# Altium schematic symbol library Flow_Pump.SCHLIB: 55 symbols
Pins are listed as number, name and electrical type; pins without a type are passive.

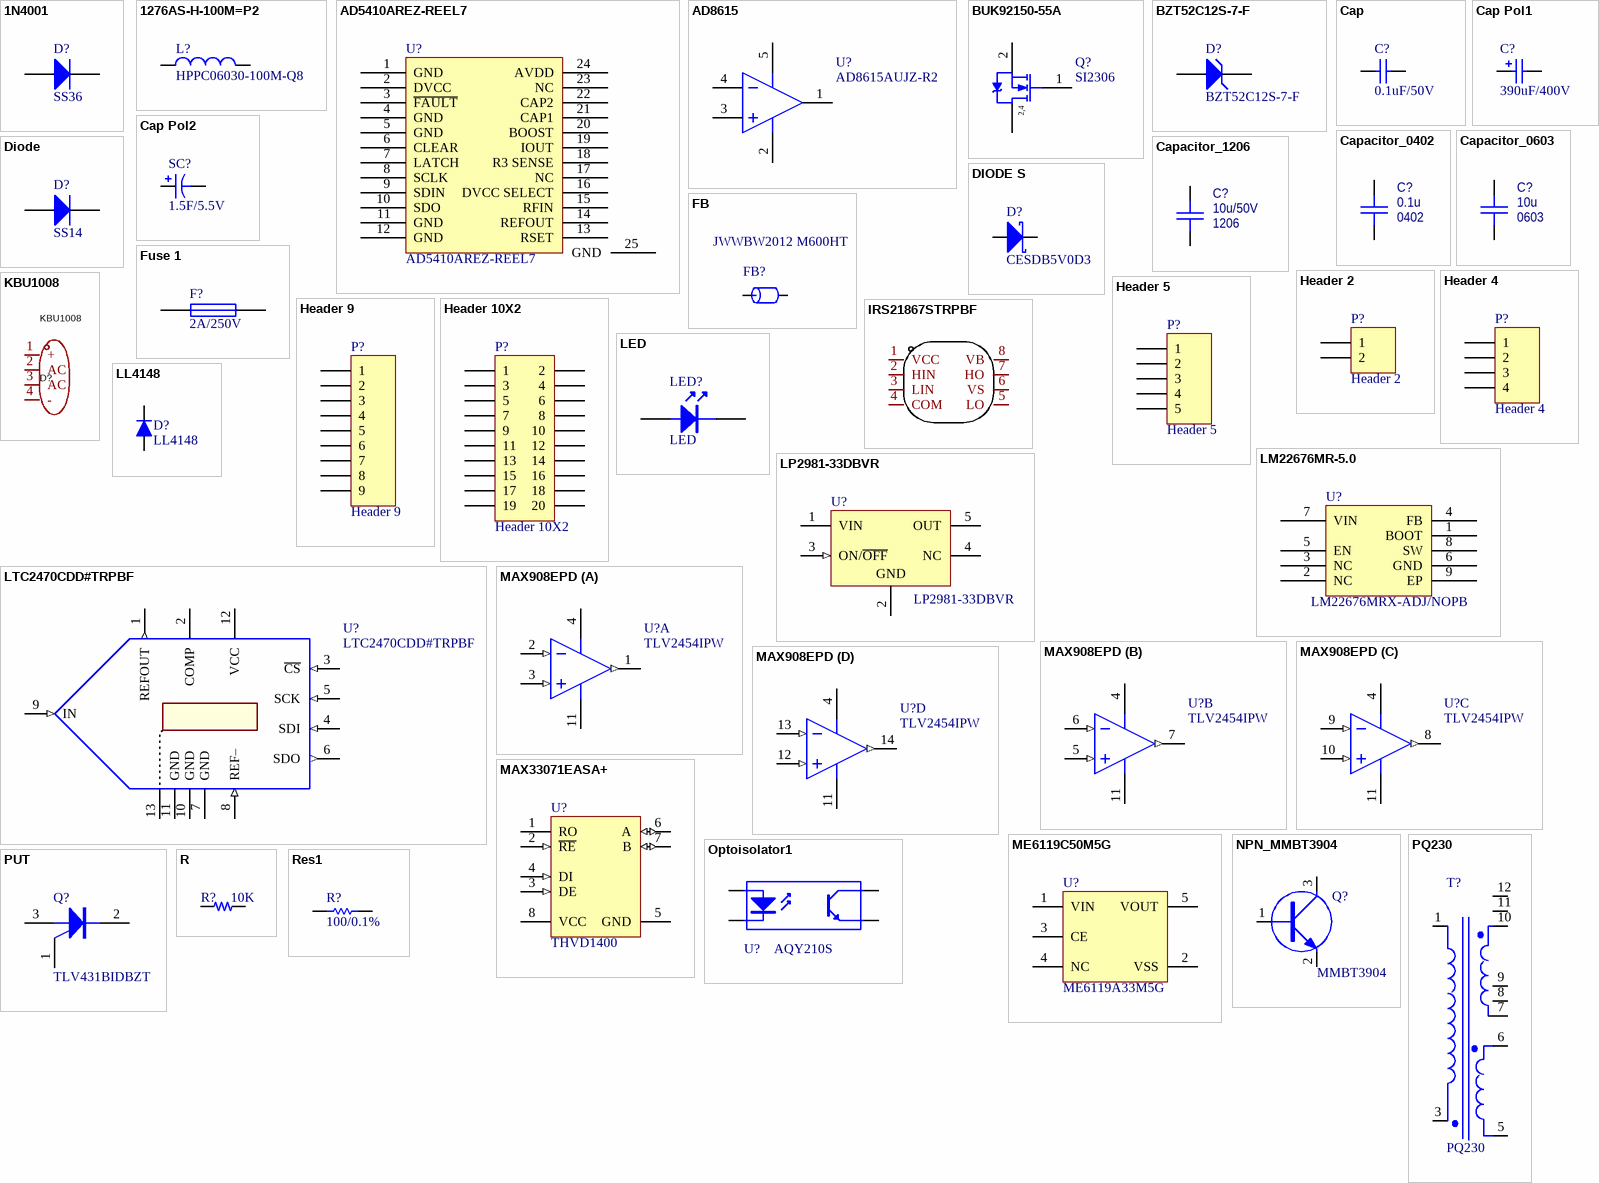
[diagram p0: symbols 1N4001 to Res1]

## 1N4001
designator D?, comment SS36  (no BOM)
1 Amp General Purpose Rectifier; Published: 8-Jun-2000; LatestRevisionDate: 17-Jul-2002; LatestRevisionNote: Re-released for DXP Platform.; DatasheetVersion: 1998; PackageVersion: Aug-1999; PackageReference: DO-41; Publisher: Altium Limited; Code_JEDEC: DO-204-AL; ComponentLink1Description: Manufacturer Link; ComponentLink1URL: http://www.fairchildsemi.com/; ComponentLink2Description: Datasheet; ComponentLink2URL: http://www.fairchildsemi.com/ds/1N%2F1N4001.pdf
footprint sma
simulation model 1N4001 (DIODE)
signal-integrity model 1N4001
pins: 1 A, 2 K

## 1276AS-H-100M=P2
designator L?, comment HPPC06030-100M-Q8
PartNumber: 1276AS-H-100M=P2; Rated Current: 250 mA; Mounting Technology: Surface Mount; PackageDescription: 2-Pin SMT Inductor, 3.2 x 2.5 mm Body; PackageReference: IND1210; Value: HPPC06030-100M-Q8
footprint IND-SMD-L7.3-W6
pins: 1, 2

## AD5410AREZ-REEL7
designator U?  (no BOM)
footprint AD5410AREZ-REEL7 (SOP, 24-Leads, Body 7.8x4.4mm (max), Pitch 0.65mm, IPC Medium Density)
pins: 1 GND, 2 DVCC, 3 ~{FAULT}, 4 GND, 5 GND, 6 CLEAR, 7 LATCH, 8 SCLK, 9 SDIN, 10 SDO, 11 GND, 12 GND, 13 RSET, 14 REFOUT, 15 RFIN, 16 DVCC SELECT, 17 NC, 18 R3 SENSE, 19 IOUT, 20 BOOST, 21 CAP1, 22 CAP2, 23 NC, 24 AVDD, 25 GND

## AD8615
designator U?, comment AD8615AUJZ-R2
Value: AD8615AUJZ-R2
footprint sot-23-5
pins: 1 OS NUL, 2 G (power), 3 V+ (power), 4 V- (power), 5 VCC

## BUK92150-55A
designator Q?, comment SI2306
BUK92150-55A; Published: 8-Jun-2000; LatestRevisionDate: 17-Jul-2002; LatestRevisionNote: Re-released for DXP Platform.; DatasheetVersion: 6-Oct-1997; PackageVersion: Aug-1998; PackageReference: TSOP-6; Publisher: Altium Limited; PackageDescription: SOT-457/SC-74; 6 Leads; Body 3.1 x 3 mm, inc. leads (LxW max); ComponentLink1Description: Manufacturer Link; ComponentLink1URL: http://www.vishay.com/; ComponentLink2Description: Datasheet; ComponentLink2URL: http://www.vishay.com/docs/70192/70192.pdf
simulation model SI3442DV (SUBCKT)
footprint SOT23-3
pins: 1 G, 2 S, 3 D
text: 2,4

## BZT52C12S-7-F
designator D?
Zener Current: 5mA; Vz - Zener Voltage: 12V; Pd - Power Dissipation: 200mW; Zz - Zener Impedance: 40Ohms; Unit Weight: 0.000173oz; Voltage Temperature Coefficient: 0.25mV/C; Voltage Tolerance: 5%; Package Reference: SOD323-2; Minimum Operating Temperature: -65C; Packaging: Reel; Product Category: ZenerDiodes; Termination Style: SMD/SMT; Mounting Style: SMD/SMT; RoHS: True; Package / Case: SOD-323; Package Description: 2-Pin Surface Mount Device, Body 1.7 x 1.3 mm; Width: 1.4mm; Mounting Technology: SurfaceMount; Package URL: http://www.vishay.com/docs/71192/71192.pdf; Series: BZT52C12; Value: BZT52C12S-7-F
footprint DIOD-SOD323-2_V (SOD-323, 2-Leads, Body 1.7x1.3mm, Lead Span 2.5mm)
pins: 1 A, 2 K

## Cap
designator C?, comment 0.1uF/50V
Capacitor; Value: 22nF; Published: 8-Jun-2000; LatestRevisionDate: 17-Jul-2002; LatestRevisionNote: Re-released for DXP Platform.; PackageReference: RAD-0.3; Publisher: Altium Limited; PackageDescription: Radial Cap, Thru-Hole; 2 Leads; 0.3 in Pin Spacing
simulation model CAP (Capacitor)
signal-integrity model Cap
footprint 0603C
pins: 1, 2

## Cap Pol1
designator C?, comment 390uF/400V
Polarized Capacitor (Radial); Value: 220uF/50V; Published: 8-Jun-2000; LatestRevisionDate: 17-Jul-2002; LatestRevisionNote: Re-released for DXP Platform.; PackageReference: RB7.6-15; Publisher: Altium Limited
footprint LGX2H391MELC50
footprint CAPPR1.27-1.7x2.8 (Capacitor, Radial, Tantalum; Body 1.7 x 2.8 mm (Dia.xH max); Pin Spacing 1.27 mm (typ))
footprint CAPPR1.5-4x5 (Capacitor, Electrolytic, Radial; Body 4 x 5 mm (Dia.xH typ); Pin Spacing 1.5 mm (typ))
footprint CAPPR2-5x6.8 (Capacitor, Electrolytic, Radial; Body 5 x 6.8 mm (Dia.xH typ); Pin Spacing 2 mm (typ))
footprint CAPPR5-5x5 (Capacitor, Electrolytic, Radial; Body 5 x 5 mm (Dia.xH typ); Pin Spacing 5 mm (typ))
footprint CAPPR7.5-16x35 (Capacitor, Electrolytic, Radial; Body 16 x 35 mm (Dia.xH typ); Pin Spacing 7.5 mm (typ))
simulation model CAP (Capacitor)
signal-integrity model Cap Pol
pins: 1, 2
1 alternate drawing of the same symbol

## Cap Pol2
designator SC?, comment 1.5F/5.5V
Polarized Capacitor (Axial); Value: 100pF; Published: 8-Jun-2000; LatestRevisionDate: 17-Jul-2002; LatestRevisionNote: Re-released for DXP Platform.; PackageReference: POLAR0.8; Publisher: Altium Limited
footprint CAP-TH_DMS3R3224
pins: 1, 2
1 alternate drawing of the same symbol

## Capacitor_0402
designator C?  value 0.1u  Package: 0402  (hidden comment: Capacitor_0402)
Capacitor, MLCC; Manufacturer: Murata Electronics; PartNumber: GRM155R71C104KA88J; Tolerance: [tol]; TempCo: [tempco]; Voltage Rating: [voltage]; Supplier 1: *; ComponentLink1URL: *; Supplier Part Number 1: *; ComponentLink1Description: Datasheet; SupplierDescription: CAP CER 0.1UF 16V X7R 0402
footprint CAPC1005X056N_0402 (Chip Capacitor, 0402)
pins: 1, 2

## Capacitor_0603
designator C?  value 10u  Package: 0603  (hidden comment: Capacitor_0603)
Capacitor, MLCC; Manufacturer: Murata Electronics; PartNumber: GRM188R61A106KE69D; Tolerance: [tol]; TempCo: [tempco]; Voltage Rating: [voltage]; Supplier 1: *; ComponentLink1URL: *; Supplier Part Number 1: *; ComponentLink1Description: Datasheet; SupplierDescription: CAP CER 10UF 10V X5R 0603
footprint CAPC1608X092N_0603 (Chip Capacitor, 0603)
pins: 1, 2

## Capacitor_1206
designator C?  value 10u/50V  Package: 1206  (hidden comment: Capacitor_1206)
PartNumber: C1206C106M3PACTU; Tolerance: [tol]; TempCo: [tempco]; Voltage Rating: [voltage]; Power Rating: *; SupplierDescription: CAP CER 10UF 25V X5R 1206
footprint 1206C
pins: 1, 2

## Diode
designator D?, comment SS14
Default Diode; Published: 8-Jun-2000; LatestRevisionDate: 17-Jul-2002; LatestRevisionNote: Re-released for DXP Platform.; PackageVersion: Sep-1996; PackageReference: SMC; Publisher: Altium Limited; Code_JEDEC: DO-214-AB
footprint DSO-C2/X3.3 (DO-214-AB/SMC; 2 C-Bend Leads; Body 7.9 x 5.9 mm, inc. leads (LxW))
simulation model DIODE (Diode)
signal-integrity model Diode
footprint SMB
footprint DO-214AC (Footprint not found)
pins: 1 A, 2 K

## DIODE S
designator D?, comment CESDB5V0D3
footprint SOD323
pins: 1 A, 2 K

## FB
designator FB?, comment JWWBW2012 M600HT
Part Field 1: 磁珠/0603/1K ohm/100MHz; Text Field1: FB; FB: BLM18BD102SN1(muRata)
footprint 0805
footprint 0805R
footprint 0805CZ
pins: 1, 2
2 alternate drawings of the same symbol

## Fuse 1
designator F?, comment 2A/250V
Fuse; Published: 8-Jun-2000; LatestRevisionDate: 17-Jul-2002; LatestRevisionNote: Re-released for DXP Platform.; PackageReference: PIN-W2/E2.8; Publisher: Altium Limited; PackageDescription: Thru-Hole; 2 Leads
simulation model FUSE (Spice Subcircuit)
footprint 可视开关电源保险丝座
pins: 1, 2

## Header 2
designator P?
Publisher: Altium Limited
footprint HDR1X2 (Connector; Header; 2 Position)
signal-integrity model Connector
pins: 1, 2

## Header 4
designator P?
Publisher: Altium Limited
footprint HDR1X4 (Connector; Header; 4 Position)
signal-integrity model Connector
pins: 1, 2, 3, 4

## Header 5
designator P?
Header, 5-Pin; LatestRevisionDate: 17-Jul-2002; LatestRevisionNote: Re-released for DXP Platform.; Publisher: Altium Limited
footprint CONN#PH2.0-5A
pins: 1, 2, 3, 4, 5

## Header 9
designator P?
Header, 9-Pin; LatestRevisionDate: 17-Jul-2002; LatestRevisionNote: Re-released for DXP Platform.; Publisher: Altium Limited
footprint CONN-SMD_YTC1P-3015-01
pins: 1, 2, 3, 4, 5, 6, 7, 8, 9

## Header 10X2
designator P?
Header, 10-Pin, Dual row; LatestRevisionDate: 17-Jul-2002; LatestRevisionNote: Re-released for DXP Platform.; Publisher: Altium Limited
footprint IDC-TH_20P-L33.0-W13.8-H-M-R2-C10-P2.54-S2.54-TR
pins: 1, 2, 3, 4, 5, 6, 7, 8, 9, 10, 11, 12, 13, 14, 15, 16, 17, 18, 19, 20

## IRS21867STRPBF
designator U?  (value not drawn)
Manufacturer: Infineon(英飞凌); Add into BOM: yes; Driven Configuration: 半桥; Load Type: MOSFET；IGBT; Number of Drivers: 2; Peak Output Current(sink): 4A; Supply Voltage: 10V~20V; Rise Time: 22ns; Fall Time: 18ns; Symbol: IRS21867STRPBF; Device: IRS21867STRPBF; LCSC Part Name: IRS21867STRPBF; Supplier Part: C52290; Manufacturer Part: IRS21867STRPBF; Supplier Footprint: SOIC-8; JLCPCB Part Class: Extended Part; Datasheet: https://atta.szlcsc.com/upload/public/pdf/source/20161024/1477287953380.pdf; Supplier: LCSC; Convert to PCB: yes; Peak Output Current(source): 4A; Operating Temperature: -40℃~+150℃@(Tj)
footprint SO-8
3D model SOIC-8_L4.9-W3.9-H1.7-LS6.0-P1.27
pins: 1 VCC, 2 HIN, 3 LIN, 4 COM, 5 LO, 6 VS, 7 HO, 8 VB

## KBU1008
designator D?
Manufacturer: YANGJIE(扬杰); Symbol: KBU1008-A2-0000; Add into BOM: yes; Forward Voltage (Vf@If): 1.1V@5A; Reverse Voltage (Vr): 800V; Average Rectified Current (Io): 10A; Reverse Leakage Current (Ir): 10uA@800V; Peak Forward Surge Current: 170A; Device: KBU1008; LCSC Part Name: 电压:800V 电流:10A; Supplier Part: C781391; Manufacturer Part: KBU1008; Supplier Footprint: KBU; JLCPCB Part Class: Extended Part; Datasheet: https://atta.szlcsc.com/upload/public/pdf/source/20200429/C525723_C60B0D61B4DEC997859D4E414530B852.pdf; Supplier: LCSC; Convert to PCB: yes; Operating Temperature: -55℃~+150℃@(Tj)
footprint KBU_4P-L23.2-W6.8-P5.10
pins: 1 +, 2 AC, 3 AC, 4 -

## LED
designator LED?  (no BOM)
footprint LED0603
footprint 0603LED
pins: 1, 2

## LL4148
designator D?
VISHAY,LL4148,圆柱体MiniMELF100V/2A,ROHS; 版本: V1.00; 名称: 快速开关二极管; 物料编号: APLLY; 制造商: VISHAY
footprint DO-213AB/LL34/MiniMELF (MELF Diode, 2-Leads, Body 3.40x1.45mm, IPC Medium Density)
pins: 1 2, 2 1

## LM22676MR-5.0
designator U?, comment LM22676MRX-ADJ/NOPB
Value: LM22676MRE-5.0/NOPB
footprint SOP127P600X168_HS-8N (SOP, 8-Leads, Body 5.0x4.0mm (max), Pitch 1.27mm, IPC Medium Density)
pins: 1 BOOT, 2 NC, 3 NC, 4 FB, 5 EN, 6 GND, 7 VIN, 8 SW, 9 EP

## LP2981-33DBVR
designator U?
Micropower 100 mA Ultra Low-Dropout Regulator, 5-pin SOT-23, Pb-Free; ComponentLink1URL: http://www.ti.com/general/docs/lit/getliterature.tsp?genericPartNumber=LP2981-N&fileType=pdf; ComponentLink1Description: Datasheet URL; Value: LP2981-33DBVR
footprint DBV0005A_M (SOT23, 5-Leads, Body 3.05x1.75mm, Pitch 0.95mm, IPC Low Density)
footprint DBV0005A_L (SOT23, 5-Leads, Body 3.05x1.75mm, Pitch 0.95mm, IPC High Density)
footprint DBV0005A_N (SOT23, 5-Leads, Body 3.05x1.75mm, Pitch 0.95mm, IPC Medium Density)
pins: 1 VIN (power), 2 GND (power), 3 ON/~{OFF} (in), 4 NC, 5 OUT (power)

## LTC2470CDD#TRPBF
designator U?
16-bit Analog-to-digital Converters, 12-pin SON (DD-12), 0 to 70 degC, Pb-Free, Tape and Reel; PartNumber: LTC2470CDD#TRPBF; ComponentLink2URL: https://www.analog.com/media/en/technical-documentation/data-sheets/24702fb.pdf; ComponentLink1URL: http://www.linear.com/; ComponentLink2Description: Datasheet; ComponentLink1Description: Manufacturer URL; Value: LTC2470CDD#TRPBF
footprint LT-DD-12_V (SON, 12-Leads, Body 3x3mm, Pitch 0.45mm, Thermal Pad 2.38x1.65mm)
pins: 1 REFOUT (out) "Reference Output Pin", 2 COMP "Internal Reference Compensation Pin", 3 ~{CS} (in) "Chip Select (Active LOW) Digital Input", 4 SDI (in) "Serial Data Input Pin", 5 SCK (in) "Serial Clock Input", 6 SDO (out) "Three-State Serial Data Output", 7 GND (power) "Ground", 8 REF– (in) "Negative Reference Input to the ADC", 9 IN (in) "ADC input", 10 GND (power) "Ground", 11 GND (power) "Ground", 12 VCC (power) "Positive Supply Voltage", 13 EP (power) "Ground"

## MAX908EPD
designator U?, comment TLV2454IPW
Quad High-speed, Ultra Low-power, Single-Supply TTL comparator; Published: 16-Jan-2001; LatestRevisionDate: 29-May-2009; LatestRevisionNote: Component Body Added.; DatasheetVersion: Jul-1994; PackageVersion: RevB, 21-0043; PackageReference: PD14; Publisher: Altium Limited; PackageDescription: DIP, 14-Pin, Row Spacing 7.62 mm, Pitch 2.54 mm; Code_JEDEC: MS-001-AC; ComponentLink1Description: Manufacturer Link; ComponentLink1URL: http://www.maxim-ic.com/; ComponentLink2Description: Datasheet; ComponentLink2URL: http://pdfserv.maxim-ic.com/en/ds/MAX907-MAX909.pdf
footprint SO14
simulation model MAX908 (SUBCKT)
footprint TSSOP14
pins on every part: 4 V+ (power), 11 GND (power)
part A pins: 1 OUT (out), 2 IN- (in), 3 IN+ (in)
part B pins: 5 IN+ (in), 6 IN- (in), 7 OUT (out)
part C pins: 8 OUT (out), 9 IN- (in), 10 IN+ (in)
part D pins: 12 IN+ (in), 13 IN- (in), 14 OUT (out)

## MAX33071EASA+
designator U?, comment THVD1400
RS-485 Half-Duplex Transceiver with ±65V Fault Protection,+3V to +5.5V, -40 to 125 degC, 8-Pin SOIC (S8+4), RoHS, Tube; PartNumber: MAX33071EASA+; VOUT: 3.000 V; VIN: 3.2 to 12.6 V; Value: MAX33071EASA+; ComponentLink1URL: http://www.maximintegrated.com/; ComponentLink1Description: Manufacturer URL; ComponentLink2URL: https://datasheets.maximintegrated.com/en/ds/MAX33070E-MAX33071E.pdf; ComponentLink2Description: Datasheet
footprint MAXM-S8+4_M (SOIC, 8-Leads, Body 4.9x3.9mm, Pitch 1.27mm, IPC Low Density)
footprint MAXM-S8+4_L (SOIC, 8-Leads, Body 4.9x3.9mm, Pitch 1.27mm, IPC High Density)
footprint MAXM-S8+4_N (SOIC, 8-Leads, Body 4.9x3.9mm, Pitch 1.27mm, IPC Medium Density)
pins: 1 RO (hiz), 2 ~{RE} (in), 3 DE (in), 4 DI (in), 5 GND (power), 6 A (io), 7 B (io), 8 VCC (power)

## ME6119C50M5G
designator U?, comment ME6119A33M5G
High Speed LDO Regulators, Low ESR, 5.0 V, 400 mA, -40 to 125 degC, 5-Pin SOT-23, RoHS, Tape and Reel; Number of Regulators: 1; Dropout Voltage: 160mV; Output Current: 300mA; Min Input Voltage: 2.5V; Nominal Output Voltage: 3.3V; Max Input Voltage: 5.5V; Min Current Limit: 400mA; Number of Pins: 5; RoHSCompliant: True; Min Operating Temperature: -40degC; Case\/Package: SOT-23; Datasheet URL: http://ww1.microchip.com/downloads/en/DeviceDoc/MIC550X.pdf; Package Description: 5-Pin Small Outline Transistor, Body 1.6 x 2.9 mm, Pitch 0.95 mm; Max Operating Temperature: 125degC; Packaging: CutTape; Manufacturer URL: http://www.microchip.com/; Package Reference: SOT-23; Mount: SurfaceMount; Output Voltage: 3.3V; Mounting Technology: SurfaceMount; Lead Free: LeadFree; REACH SVHC: NoSVHC; Datasheet Version: Rev. 2.3, 04/2015
footprint MCRN-SOT23-5_V (SOT-23, 5-Leads, Body 3x1.7mm, Pitch 0.95mm)
pins: 1 VIN, 2 VSS, 3 CE, 4 NC, 5 VOUT

## NPN_MMBT3904
designator Q?, comment MMBT3904  (no BOM)
footprint SOT23-3
pins: 1 B, 2 E, 3 C

## Optoisolator1
designator U?, comment AQY210S
4-Pin Phototransistor Optocoupler; Published: 24-Mar-1999; LatestRevisionDate: 04-Mar-2005; LatestRevisionNote: Sch pins 3 & 4 Swapped.; DatasheetVersion: Nov-2003; PackageReference: DIP-4; Publisher: Altium Limited
footprint sop4
pins: 1 A "Anode", 2 K "Cathode", 3 E "Emitter", 4 C "Collector"

## PQ230
designator T?
footprint pq3230
pins: 1 Pri+, 3 Pri-, 5 Pri-, 6 Pri-, 7 Pri-, 8 Pri-, 9 Pri-, 10 Pri+, 11 Pri+, 12 Pri+

## PUT
designator Q?, comment TLV431BIDBZT
Programmable Unijunction Transistor; Published: 8-Jun-2000; LatestRevisionDate: 17-Jul-2002; LatestRevisionNote: Re-released for DXP Platform.; PackageReference: TO-52; Publisher: Altium Limited
footprint SOT23-3
simulation model PUT (Spice Subcircuit)
pins: 1 G, 2 K, 3 A

## R
designator R?, comment 10K
Value: 10k/1%
footprint 0603R
footprint 0603R
footprint 0603R
footprint R3
pins: 1, 2

## Res1
designator R?, comment 100/0.1%
Resistor; Published: 8-Jun-2000; LatestRevisionDate: 17-Jul-2002; LatestRevisionNote: Re-released for DXP Platform.; PackageReference: AXIAL-0.3; Publisher: Altium Limited
footprint 0603R (Footprint not found)
simulation model RESISTOR (Resistor)
signal-integrity model Res
pins: 1, 2

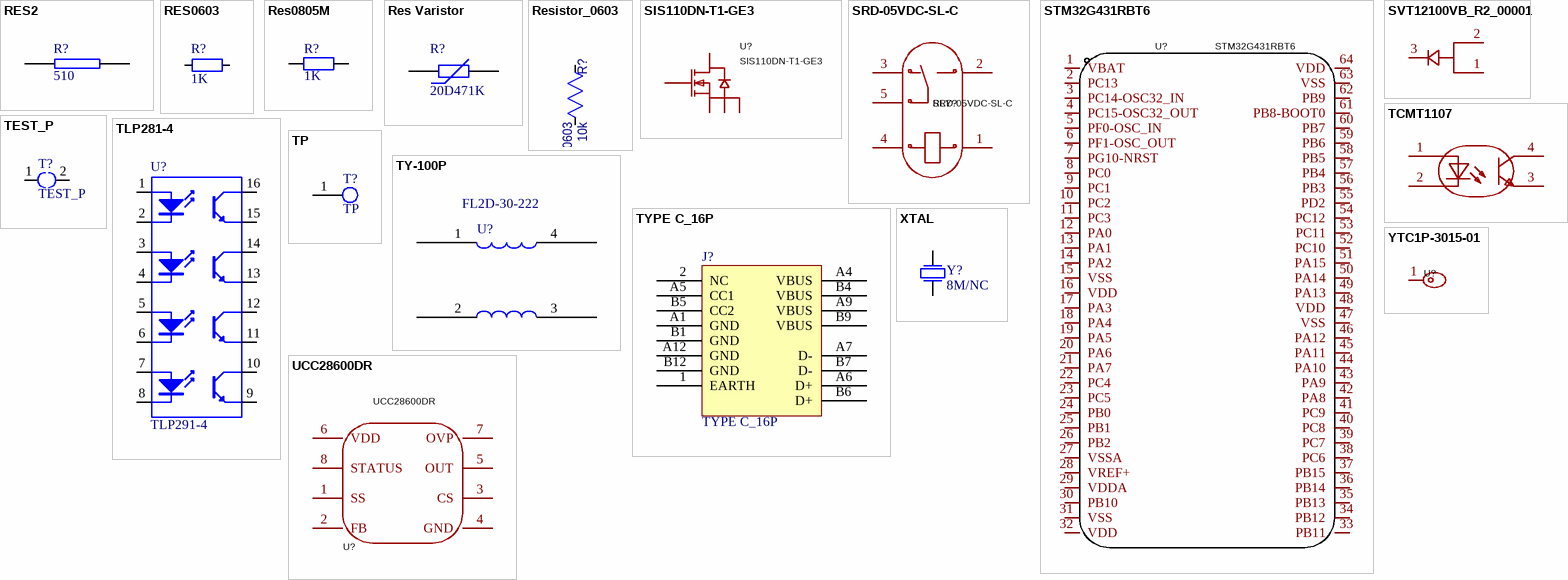
[diagram p1: symbols RES2 to YTC1P-3015-01]

## RES2
designator R?, comment 510
footprint 0603R
pins: 1, 2

## RES0603
designator R?, comment 1K
物料主编码(PN): 150000040; ID: 233; 序号: 109; 物料名称: 贴片电阻; 精度: ±1%; 规格型号(完整型号): RC1608F103CS/RC0603FR-0710KL; 物料描述: RES,贴片电阻,0603,10k,±1%,1/10W,1.6X0.8X0.45mm,RC1608F103CS/RC0603FR-0710KL; 工作温度: –55°C to 155°C; 制造商: 三星/YAGEO; 器件等级: ——; 物料类型: 表贴电阻; 参数值: 1.00E+04; Value: 1K
footprint 0603r
pins: 1, 2

## Res0805M
designator R?, comment 1K  (no BOM)
footprint R0603
footprint 0603R
pins: 1, 2

## Res Varistor
designator R?, comment 20D471K
Varistor (Voltage-Sensitive Resistor); Published: 24-Mar-1999; LatestRevisionDate: 29-May-2009; LatestRevisionNote: IPC-7351 Footprint Added.; PackageVersion: Mar-2003; PackageReference: 6-0805; Publisher: Altium Limited; PackageDescription: Chip Resistor 0805 Case Size; Code_IPC: RESC2012
footprint 20D471K
footprint 6-0805_M (Chip Resistor, Body 2.0x1.2mm, IPC Low Density)
pins: 1, 2

## Resistor_0603
designator R?  value 10k  Package: 0603  (hidden comment: Resistor_0603)
Resistor, Standard; PartNumber: RR0816P-103-D; TempCo: [tempco]; Tolerance: tol; ComponentLink1URL: *; ComponentLink1Description: Datasheet; SupplierDescription: RES SMD 10K OHM 0.5% 1/16W 0603
footprint RESC1608X055N_0603 (Chip Resistor, 0603)
pins: 1, 2

## SIS110DN-T1-GE3
designator U?
Manufacturer: VISHAY(威世); Add into BOM: yes; Symbol: SIS110DN-T1-GE3; Device: SIS110DN-T1-GE3; LCSC Part Name: SIS110DN-T1-GE3; Supplier Part: C5334354; Manufacturer Part: SIS110DN-T1-GE3; Supplier Footprint: SO-8; JLCPCB Part Class: Extended Part; Datasheet: https://atta.szlcsc.com/upload/public/pdf/source/20221230/028E61738915F263ABF2615161A8D7B6.pdf; Supplier: LCSC; Convert to PCB: yes
footprint DFN-8_L3.3-W3.3-P0.65-BL-2
pins: 1 S, 2 S, 3 S, 4 G, 5 D

## SRD-05VDC-SL-C
designator RLY?
Manufacturer: 松乐; Add into BOM: yes; Coil Voltage: 5V; Contact Form: 一组转换:1C(单刀双掷-转换); Pin Number: 5; Maximum Switching Voltage: 250V@AC; Coil Rated Power: 360mW; Maximum Switching Current: 15A; Coil Type: 无极性-单线圈; Coil Resistance: 70Ω; Contact Resistance: 100mΩ; Operate Time: 10ms; Symbol: SRD-05VDC-SL-C; Device: SRD-05VDC-SL-C; LCSC Part Name: 蓝色; Supplier Part: C35449; Manufacturer Part: SRD-05VDC-SL-C; Supplier Footprint: 插件,15.6x19.2mm; JLCPCB Part Class: Extended Part; Datasheet: https://atta.szlcsc.com/upload/public/pdf/source/20200305/C490149_C96E4098A3B1FFB377D5AD2E40B7C2A8.pdf; Supplier: LCSC; Convert to PCB: yes; Contact Rating: -; Release Time: 10ms
footprint RELAY-TH_SRD-XXVDC-XL-C
pins: 1, 2, 3, 4, 5

## STM32G431RBT6
designator U?
Manufacturer: ST(意法半导体); Add into BOM: yes; Program Storage Size: 128KB; GPIO Ports Number: 52; Operating Voltage Range: 1.71V~3.6V; CPU Maximum Speed: 170MHz; ADC (Bit): 12bit; Watchdog: 有; Symbol: STM32G431RBT6; Device: STM32G431RBT6; LCSC Part Name: 带DSP和FPU的170MHz主流ARM Cortex-M4 MCU，具有128 KB Flash存储器、数学加速器和中等模拟电平集成; Supplier Part: C431633; Manufacturer Part: STM32G431RBT6; Supplier Footprint: LQFP-64(10x10); JLCPCB Part Class: Extended Part; Datasheet: https://atta.szlcsc.com/upload/public/pdf/source/20190925/C431633_8068E60CC825A086DCCD86A4BDED9458.pdf; Supplier: LCSC; Convert to PCB: yes; CPU Core: -; Operating Temperature Range: -40℃~+85℃; DAC (Bit): 12bit; Infrared Data Association: 有; Low-Voltage Detect: 有; Direct Memory Access: 有; Internal Oscillator: 有
footprint LQFP-64
3D model LQFP-64_L10.0-W10.0-H1.4-LS12.0-P0.50
pins: 1 VBAT, 2 PC13, 3 PC14-OSC32_IN, 4 PC15-OSC32_OUT, 5 PF0-OSC_IN, 6 PF1-OSC_OUT, 7 PG10-NRST, 8 PC0, 9 PC1, 10 PC2, 11 PC3, 12 PA0, 13 PA1, 14 PA2, 15 VSS, 16 VDD, 17 PA3, 18 PA4, 19 PA5, 20 PA6, 21 PA7, 22 PC4, 23 PC5, 24 PB0, 25 PB1, 26 PB2, 27 VSSA, 28 VREF+, 29 VDDA, 30 PB10, 31 VSS, 32 VDD, 33 PB11, 34 PB12, 35 PB13, 36 PB14, 37 PB15, 38 PC6, 39 PC7, 40 PC8, 41 PC9, 42 PA8, 43 PA9, 44 PA10, 45 PA11, 46 PA12, 47 VSS, 48 VDD, 49 PA13, 50 PA14, 51 PA15, 52 PC10, 53 PC11, 54 PC12, 55 PD2, 56 PB3, 57 PB4, 58 PB5, 59 PB6, 60 PB7, 61 PB8-BOOT0, 62 PB9, 63 VSS, 64 VDD

## SVT12100VB_R2_00001
designator D?  (value not drawn)
Manufacturer: PANJIT(强茂); Add into BOM: yes; Forward Voltage (Vf@If): 670mV@12A; Reverse Voltage (Vr): 100V; Average Rectified Current (Io): 12A; Reverse Leakage Current (Ir): 100uA@100V; Symbol: SVT12100VB_R2_00001; Device: SVT12100VB_R2_00001; LCSC Part Name: 电压:100V 电流:12A; Supplier Part: C391735; Manufacturer Part: SVT12100VB_R2_00001; Supplier Footprint: TO-277B; JLCPCB Part Class: Extended Part; Datasheet: https://atta.szlcsc.com/upload/public/pdf/source/20191009/C391735_74715AF6864FC3D0E0C927F6D6BDC70E.pdf; Supplier: LCSC; Convert to PCB: yes
footprint TO-277B_3P-L6.1-W4.3-LS7.0-BR
pins: 1, 2, 3

## TCMT1107
designator U?  (value not drawn)
Manufacturer: VISHAY(威世); Add into BOM: yes; Input voltage type: DC; Output Type: 光电三极管; Forward Voltage: 1.35V; Output Current: 50mA; Isolation Voltage(rms): 3.75kV; Reverse Voltage: 6V; Receiving End Voltage: 70V; Number of Outputs: 1; Collector-Emitter Saturation Voltage (Vce(sat)@Ic,IF): 300mV@1mA,10mA; Rise time: 5.5us@2mA,100Ω; Fall time: 7us@2mA,100Ω; Symbol: TCMT1107; Device: TCMT1107; LCSC Part Name: DC输入 隔离电压(rms):3750V; Supplier Part: C81148; Manufacturer Part: TCMT1107; Supplier Footprint: SOP-4-1.27mm; JLCPCB Part Class: Extended Part; Datasheet: https://atta.szlcsc.com/upload/public/pdf/source/20170713/C118299_1499918878383816727.pdf; Supplier: LCSC; Convert to PCB: yes; Operating Temperature: -40℃~+100℃
footprint sop4
pins: 1 AN, 2 CAT, 3 EM, 4 COL

## TEST_P
designator T?
footprint TEST_P
pins: 1, 2

## TLP281-4
designator U?, comment TLP291-4
footprint SOP16-T
pins: 1 A, 2 K, 3 A, 4 K, 5 A, 6 K, 7 A, 8 K, 9 E, 10 C, 11 E, 12 C, 13 E, 14 C, 15 E, 16 C

## TP
designator T?
footprint TPD
pins: 1

## TY-100P
designator U?, comment FL2D-30-222
PCB mounting filters
footprint TY-100P
pins: 1 L, 2 L, 3, 4 L

## TYPE C_16P
designator J?
footprint TYPEC_16P
pins: 1 EARTH, 2 NC, A1 GND, A4 VBUS, A5 CC1, A6 D+, A7 D-, A9 VBUS, A12 GND, B1 GND, B4 VBUS, B5 CC2, B6 D+, B7 D-, B9 VBUS, B12 GND

## UCC28600DR
designator U?
Manufacturer: TI(德州仪器); Add into BOM: yes; Output Isolation: 隔离; Supply Voltage: 8V~21V; Switching Frequency: 40kHz~130kHz; Duty Cycle: 99%; Topology: 反激式; Symbol: UCC28600DR; Device: UCC28600DR; LCSC Part Name: UCC28600DR; Supplier Part: C28585; Manufacturer Part: UCC28600DR; Supplier Footprint: SOIC-8; JLCPCB Part Class: Extended Part; Datasheet: https://www.ti.com/cn/lit/gpn/ucc28600; Supplier: LCSC; Convert to PCB: yes; Operating Temperature: -40℃~+105℃@(Ta)
footprint so-8
pins: 1 SS, 2 FB, 3 CS, 4 GND, 5 OUT, 6 VDD, 7 OVP, 8 STATUS

## XTAL
designator Y?, comment 8M/NC
Value: 8M
footprint CRAY_5032
pins: 1 P1, 2 P2

## YTC1P-3015-01
designator U?  (value not drawn)
Manufacturer: YIYUAN(怡远); Add into BOM: yes; Overall Length/Height: 4.5mm; Rated Current: 2.5A; Rated Voltage: 12V; Symbol: YTC1P-3015-01; Device: YTC1P-3015-01; LCSC Part Name: POGO PIN弹簧顶针 贴片连接器; Supplier Part: C5221293; Manufacturer Part: YTC1P-3015-01; Supplier Footprint: -; JLCPCB Part Class: Extended Part; Datasheet: https://atta.szlcsc.com/upload/public/pdf/source/20221031/BD070516233C1C93A35D01CFB419D0D5.pdf; Supplier: LCSC; Convert to PCB: yes; Type: 弹簧顶针(POGO PIN); Number of Pins: 单PIN位; Contact Material: 黄铜; Contact Plating: 金; Comment_1: YTC1P-3015-01
footprint CONN-SMD_YTC1P-3015-01
pins: 1